# Altium schematic symbol library 2020-07-15_05-47-19.SchLib: 2 symbols
Pins are listed as number, name and electrical type; pins without a type are passive.

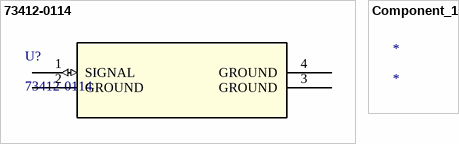
[diagram p0: symbols 73412-0114 to Component_1]

## 73412-0114
designator U?
No Description Available; Vendor: Molex Connector Corporation; Built_By: EMA_Cory; SourceLibrary: Molex_2020-01-22; Manufacturer_Part_Number: 73412-0114; Copyright: Copyright (C) 2018 Accelerated Designs. All rights reserved; Datasheet: https://www.digikey.com/products/en?keywords=73412-0114; RefDes: RefDes; Type: DEV
footprint 73412-0114_MOL
pins: 1 SIGNAL (io), 2 GROUND, 3 GROUND, 4 GROUND

## Component_1
designator *